# Altium schematic symbol library Pi_zero.SchLib: 1 symbol
Pins are listed as number, name and electrical type; pins without a type are passive.

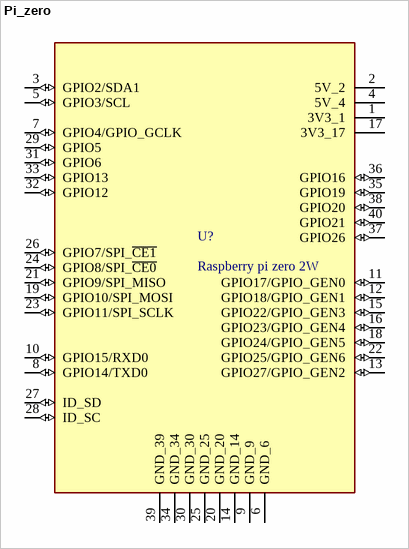
[diagram p0: symbol Pi_zero]

## Pi_zero
designator U?, comment Raspberry pi zero 2W
footprint Pi_zero (Raspberry pi zero 2W)
pins: 1 3V3_1 (power), 2 5V_2 (power), 3 GPIO2/SDA1 (io), 4 5V_4 (power), 5 GPIO3/SCL (io), 6 GND_6 (power), 7 GPIO4/GPIO_GCLK (io), 8 GPIO14/TXD0 (io), 9 GND_9 (power), 10 GPIO15/RXD0 (io), 11 GPIO17/GPIO_GEN0 (io), 12 GPIO18/GPIO_GEN1 (io), 13 GPIO27/GPIO_GEN2 (io), 14 GND_14 (power), 15 GPIO22/GPIO_GEN3 (io), 16 GPIO23/GPIO_GEN4 (io), 17 3V3_17 (power), 18 GPIO24/GPIO_GEN5 (io), 19 GPIO10/SPI_MOSI (io), 20 GND_20 (power), 21 GPIO9/SPI_MISO (io), 22 GPIO25/GPIO_GEN6 (io), 23 GPIO11/SPI_SCLK (io), 24 GPIO8/SPI_~{CE0} (io), 25 GND_25 (power), 26 GPIO7/SPI_~{CE1} (io), 27 ID_SD (io), 28 ID_SC (io), 29 GPIO5 (io), 30 GND_30 (power), 31 GPIO6 (io), 32 GPIO12 (io), 33 GPIO13 (io), 34 GND_34 (power), 35 GPIO19 (io), 36 GPIO16 (io), 37 GPIO26 (io), 38 GPIO20 (io), 39 GND_39 (power), 40 GPIO21 (io)